# Altium footprint library Power IC Pad Lib.PcbLib: 21 footprints (part 2 of 2)
Each footprint in its own frame and in the unit in brackets; x right, y up, seen from the top. Pads: shape width x height; smd on the part's side, far side on the other; paste and mask are expansions set on the pad; w line width, h text height; cw(c..) or ccw(c..) is an arc to the next point about the centre after c.
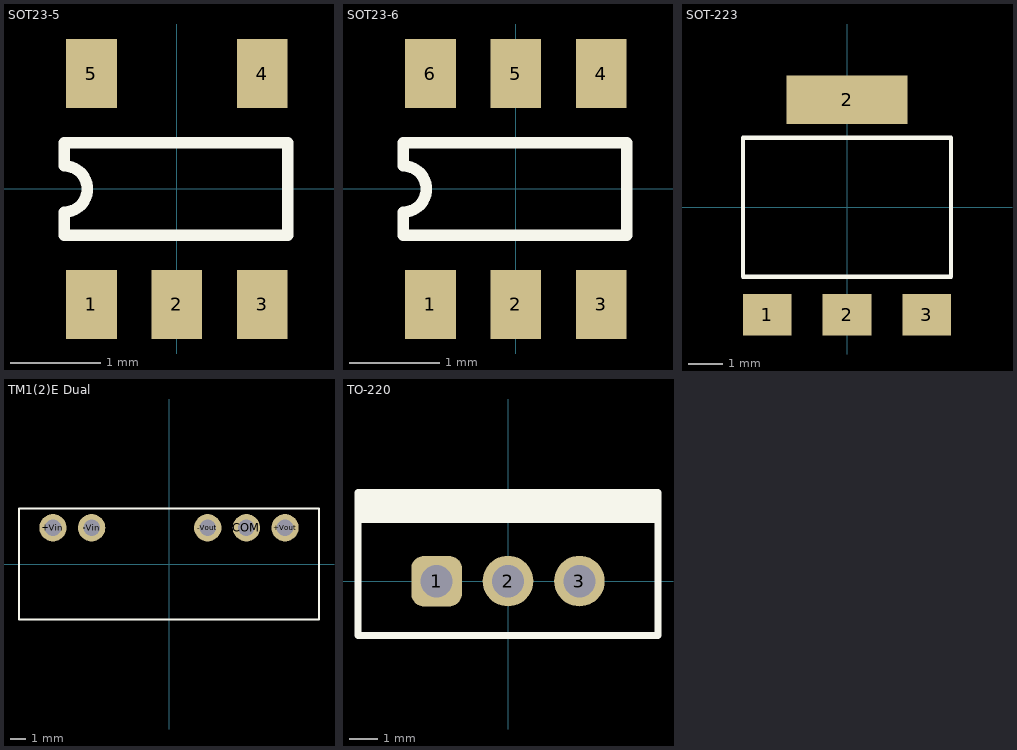
[diagram p1: the footprints below, top view; thin cyan lines are the x and y axes]

## SOT23-5 [mil] "SOT23-5"
pads (5):
  rect 22x30 smd: 1(-37,-50) 2(0,-50) 3(37,-50) 4(37,50) 5(-37,50)
Top Overlay:
  lines w5: -48.75,-20 -48.75,-10 ccw(c-48.75,0) -48.75,10 -48.75,20 48,20 48,-20 -48.75,-20
3D body: height 171, standoff -22, extent 48,0 48,0
3D body: height 171, standoff -22, extent 48,0 48,0
3D body "SOT23-5.step": height 57.09, standoff 0, extent -57.08,-55.11 57.09,55.12

## SOT23-6 [mil] "SOT23-6"
pads (6):
  rect 22x30 smd: 1(-37,-50) 2(0,-50) 3(37,-50) 4(37,50) 5(0,50) 6(-37,50)
Top Overlay:
  lines w5: -48.75,-20 -48.75,-10 ccw(c-48.75,0) -48.75,10 -48.75,20 48,20 48,-20 -48.75,-20
3D body: height 171, standoff -22, extent 48,0 48,0
3D body: height 171, standoff -22, extent 48,0 48,0
3D body "SOT23-6.step": height 57.09, standoff 0, extent -57.08,-55.11 57.09,55.12

## SOT-223 [mm]
pads (4):
  rect 1.4x1.2 smd: 1(-2.3,-3.1) 2(0,-3.1) 3(2.3,-3.1)
  rect 3.5x1.4 smd: 2(0,3.1)
Top Overlay:
  lines w0.127: -3,-2 3,-2 3,2 -3,2 -3,-2
3D body: height 4.34, standoff -0.56, extent 1.219,0 1.219,0
3D body: height 4.34, standoff -0.56, extent 1.219,0 1.219,0
3D body "SOT-223.stp": height 1.68, standoff 0, extent -3.25,-3.5 3.25,3.5

## TM1(2)E Dual [mm]
pads (5):
  round 1.8 hole 1.1: +Vin(-7.62,2.38) +Vout(7.62,2.38) -Vin(-5.08,2.38) -Vout(2.54,2.38) COM(5.08,2.38)
Top Overlay:
  lines w0.127: -9.85,-3.65 -9.85,3.65 9.85,3.65 9.85,-3.65 -9.85,-3.65
3D body "TM1(2)E Dual (Witok).STEP": height 10.7, standoff -4, extent -9.85,-3.65 9.85,3.65

## TO-220 [mm]
pads (3):
  rrect50% 1.8x1.8 hole 1.15: 1(-2.54,0)
  round 1.8 hole 1.15: 2(0,0) 3(2.54,0)
Top Overlay:
  region: -5.334,3.15 -5.334,2.075 5.334,2.075 5.334,3.15
  lines w0.254: -5.334,-1.93 5.334,-1.93 5.334,3.15 -5.334,3.15 -5.334,-1.93
3D body "TO-220.stp": height 26.35, standoff -2.01, extent -5.08,-1.67 5.08,2.9